# EAGLE library part 4606X-R2R-103LF (library resistors)
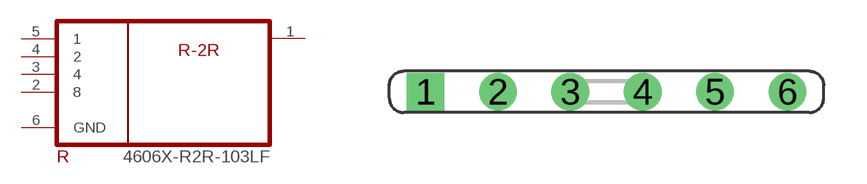
[diagram p0: symbol with the pads of R-SIL6; footprint R-SIL6]

Designator prefix R

## 4606X-R2R-103LF (MOUSER: 652-4606X-R2R-103LF)  [R-SIL6]
1  OUT  pas
2  8  pas
3  4  pas
4  2  pas
5  1  pas
6  GND  pas

## Footprint R-SIL6 (pad centres in mm)
drill 0.813 square: 1 -6.35,0
drill 0.813: 2 -3.81,0; 3 -1.27,0; 4 1.27,0; 5 3.81,0; 6 6.35,0